# Altium schematic symbol library R_SENSE_MBED.Schlib: 1 symbol
Pins are listed as number, name and electrical type; pins without a type are passive.

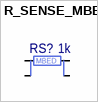
[diagram p0: symbol R_SENSE_MBED]

## R_SENSE_MBED
designator RS?, comment Resistance: 1k  Case Code (Imperial): MBED  (hidden comment: Current Sense Resistor)  (net tie, no BOM)
pins: 1, 2, 3, 4
1 alternate drawing of the same symbol